# Altium footprint library GCT_USB-Micro.PcbLib: 12 footprints
Each footprint in its own frame and in the unit in brackets; x right, y up, seen from the top. Pads: shape width x height; smd on the part's side, far side on the other; paste and mask are expansions set on the pad; w line width, h text height; cw(c..) or ccw(c..) is an arc to the next point about the centre after c.
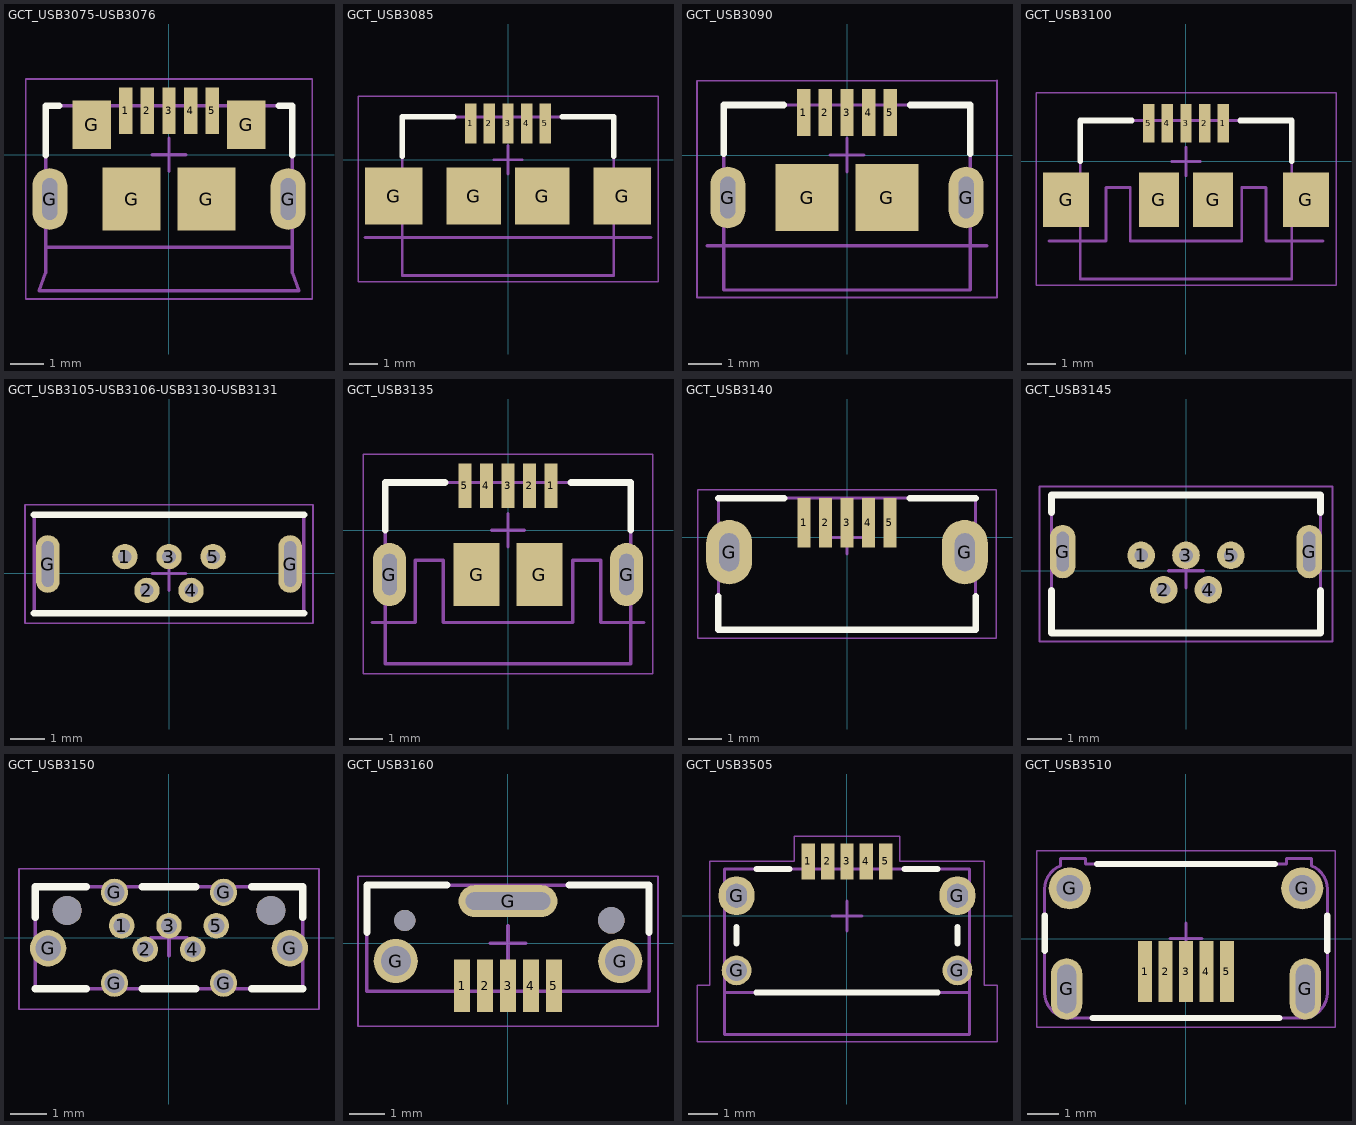
[diagram p0: the footprints below, top view; thin cyan lines are the x and y axes]

## GCT_USB3075-USB3076 [mm]
height 2.7
pads (11):
  rect 0.4x1.4 smd mask+0.07: 1(-1.3,1.325) 2(-0.65,1.325) 3(0,1.325) 4(0.65,1.325) 5(1.3,1.325)
  oval 1.05x1.85 hole 0.45 slot 1.25 at 90 deg mask+0.07: G(-3.575,-1.325) G(3.575,-1.325)
  rect 1.15x1.45 smd mask+0.07: G(-2.32,0.905) G(2.32,0.905)
  rect 1.75x1.9 smd mask+0.07: G(-1.125,-1.325) G(1.125,-1.325)
Top Overlay:
  lines w0.2: -3.7,-0.006 -3.7,1.475 -3.295,1.475 ; 3.295,1.475 3.7,1.475 3.7,-0.006
Top Assembly:
  lines w0.1: -3.7,-2.775 3.7,-2.775 3.7,1.475 -3.7,1.475 -3.7,-2.775
  text ".Designator" at -2.253,-0.226 h1
Top Courtyard:
  lines w0.05: -4.3,-4.325 -4.3,2.275 4.3,2.275 4.3,-4.325 -4.3,-4.325
  lines w0.1: -0.5,0 0.5,0 ; 0,-0.5 0,0.5
Assembly Notes:
  lines w0.1: -3.9,-4.075 3.9,-4.075 3.7,-3.535 3.7,-2.775 -3.7,-2.775 -3.7,-3.535 -3.9,-4.075
  text "PCB Edge" at 0.916,-2.543 h0.51
3D body "step_temp.STEP": height 2.7, standoff -1, extent -3.9,-4.075 3.9,1.475

## GCT_USB3085 [mm]
height 2.7
pads (9):
  rect 0.4x1.4 smd mask+0.07: 1(-1.3,1.275) 2(-0.65,1.275) 3(0,1.275) 4(0.65,1.275) 5(1.3,1.275)
  rect 2x2 smd mask+0.07: G(-4,-1.275) G(4,-1.275)
  rect 1.9x2 smd mask+0.07: G(-1.2,-1.275) G(1.2,-1.275)
Top Overlay:
  lines w0.2: -3.7,0.125 -3.7,1.5 -1.9,1.5 ; 1.9,1.5 3.7,1.5 3.7,0.125
Top Assembly:
  lines w0.1: -5,-2.725 5,-2.725 ; -3.7,-2.725 -3.7,1.5 3.7,1.5 3.7,-2.725
  text ".Designator" at -2.253,-0.226 h1
Top Courtyard:
  lines w0.05: -5.25,-4.275 5.25,-4.275 5.25,2.225 -5.25,2.225 -5.25,-4.275
  lines w0.1: -0.5,0 0.5,0 ; 0,-0.5 0,0.5
Assembly Notes:
  lines w0.1: -5,-2.725 5,-2.725 ; -3.7,-2.725 -3.7,-4.05 3.7,-4.05 3.7,-2.725
  text "PCB Edge" at 1.466,-2.493 h0.51
3D body "USB3085-30-A.stp": height 2.62, standoff -0.14, extent -4.399,-3.95 4.399,1.6

## GCT_USB3090 [mm]
height 2.7
pads (9):
  rect 0.4x1.4 smd mask+0.07: 1(-1.3,1.275) 2(-0.65,1.275) 3(0,1.275) 4(0.65,1.275) 5(1.3,1.275)
  oval 1.05x1.85 hole 0.45 slot 1.25 at 90 deg unplated mask+0.07: G(-3.575,-1.275) G(3.575,-1.275)
  rect 1.9x2 smd mask+0.07: G(-1.2,-1.275) G(1.2,-1.275)
Top Overlay:
  lines w0.2: -3.7,0.044 -3.7,1.5 -1.9,1.5 ; 1.9,1.5 3.7,1.5 3.7,0.044
Top Assembly:
  lines w0.1: -4.2,-2.725 4.2,-2.725 ; -3.7,-2.725 -3.7,1.5 3.7,1.5 3.7,-2.725
  text ".Designator" at -2.253,-0.226 h1
Top Courtyard:
  lines w0.05: -4.5,-4.275 -4.5,2.225 4.5,2.235 4.5,-4.275 -4.5,-4.275
  lines w0.1: -0.5,0 0.5,0 ; 0,-0.5 0,0.5
Assembly Notes:
  lines w0.1: -4.2,-2.725 4.2,-2.725 ; -3.7,-2.725 -3.7,-4.05 3.7,-4.05 3.7,-2.725
  text "PCB Edge" at 1.466,-2.593 h0.51
3D body "step_temp.STEP": height 2.71, standoff -1, extent -3.9,-4.025 3.9,1.475

## GCT_USB3100 [mm]
height 2.77
pads (9):
  rect 0.4x1.35 smd mask+0.07: 1(1.3,1.338) 2(0.65,1.338) 3(0,1.338) 4(-0.65,1.338) 5(-1.3,1.338)
  rect 1.6x1.9 smd mask+0.07: G(-4.2,-1.338) G(4.2,-1.338)
  rect 1.4x1.9 smd mask+0.07: G(-0.95,-1.338) G(0.95,-1.338)
Top Overlay:
  lines w0.2: -3.7,0.012 -3.7,1.438 -1.9,1.438 ; 1.9,1.438 3.7,1.438 3.7,0.012
Top Assembly:
  lines w0.1: -4.8,-2.788 -2.8,-2.788 -2.8,-0.908 -1.95,-0.908 -1.95,-2.788 1.95,-2.788 1.95,-0.908 2.8,-0.908 2.8,-2.788 4.8,-2.788 ; -3.7,-2.788 -3.7,1.438 3.7,1.438 3.7,-2.788
  text ".Designator" at -2.253,-0.226 h1
Top Courtyard:
  lines w0.05: -5.25,-4.337 5.25,-4.337 5.25,2.412 -5.25,2.412 -5.25,-4.337
  lines w0.1: -0.5,0 0.5,0 ; 0,-0.5 0,0.5
Assembly Notes:
  lines w0.1: -4.8,-2.788 -2.8,-2.788 -2.8,-0.908 -1.95,-0.908 -1.95,-2.788 1.95,-2.788 1.95,-0.908 2.8,-0.908 2.8,-2.788 4.8,-2.788 ; -3.7,-2.788 -3.7,-4.113 3.7,-4.113 3.7,-2.788
  text "PCB Edge" at -1.034,-2.555 h0.51
3D body "usb3100-30-a.stp": height 2.63, standoff -0.18, extent -4.613,-4 4.613,1.5

## GCT_USB3105-USB3106-USB3130-USB3131 [mm]
height 5
pads (7):
  round 0.75 hole 0.4 mask+0.07: 1(-1.3,0.5) 2(-0.65,-0.5) 3(0,0.5) 4(0.65,-0.5) 5(1.3,0.5)
  oval 0.7x1.7 hole 0.35 slot 1.35 at 90 deg unplated mask+0.07: G(-3.575,0.28) G(3.575,0.28)
Top Overlay:
  lines w0.2: -3.98,-1.17 3.98,-1.17 ; -3.98,1.73 3.98,1.73
Top Assembly:
  lines w0.1: -3.98,-1.17 -3.98,1.73 3.98,1.73 3.98,-1.17 -3.98,-1.17
  text ".Designator" at -2.253,-0.226 h1
Top Courtyard:
  lines w0.05: -4.25,-1.47 4.25,-1.47 4.25,2.03 -4.25,2.03 -4.25,-1.47
  lines w0.1: -0.5,0 0.5,0 ; 0,-0.5 0,0.5
3D body "usb3105-30-a.stp": height 5.61, standoff -1.5, extent -3.98,-1.23 3.98,1.705

## GCT_USB3135 [mm]
height 2.77
pads (9):
  rect 0.4x1.35 smd mask+0.07: 1(1.3,1.338) 2(0.65,1.338) 3(0,1.338) 4(-0.65,1.338) 5(-1.3,1.338)
  oval 1x1.9 hole 0.45 slot 1.25 at 90 deg unplated mask+0.07: G(-3.575,-1.338) G(3.575,-1.338)
  rect 1.4x1.9 smd mask+0.07: G(-0.95,-1.338) G(0.95,-1.338)
Top Overlay:
  lines w0.2: -3.7,0.006 -3.7,1.438 -1.9,1.438 ; 1.9,1.438 3.7,1.438 3.7,0.006
Top Assembly:
  lines w0.1: -4.1,-2.788 -2.8,-2.788 -2.8,-0.908 -1.95,-0.908 -1.95,-2.788 1.95,-2.788 1.95,-0.908 2.8,-0.908 2.8,-2.788 4.1,-2.788 ; -3.7,-2.788 -3.7,1.438 3.7,1.438 3.7,-2.788
  text ".Designator" at -2.253,-0.226 h1
Top Courtyard:
  lines w0.05: -4.369,-4.335 -4.369,2.295 4.369,2.295 4.369,-4.335 -4.369,-4.335
  lines w0.1: -0.5,0 0.5,0 ; 0,-0.5 0,0.5
Assembly Notes:
  lines w0.1: -4.1,-2.788 -2.8,-2.788 -2.8,-0.908 -1.95,-0.908 -1.95,-2.788 1.95,-2.788 1.95,-0.908 2.8,-0.908 2.8,-2.788 4.1,-2.788 ; -3.7,-2.788 -3.7,-4.03 3.7,-4.03 3.7,-2.788
  text "PCB Edge" at -1.034,-2.655 h0.51
3D body "usb3135-30-a.stp": height 2.64, standoff -0.94, extent -3.901,-4 3.901,1.5

## GCT_USB3140 [mm]
height 6.5
pads (7):
  rect 0.4x1.5 smd mask+0.07: 1(-1.3,0.445) 2(-0.65,0.445) 3(0,0.445) 4(0.65,0.445) 5(1.3,0.445)
  oval 1.4x1.95 hole 0.6 slot 1.15 at 90 deg mask+0.07: G(-3.575,-0.445) G(3.575,-0.445)
Top Overlay:
  lines w0.2: -3.9,-1.785 -3.9,-2.805 3.9,-2.805 3.9,-1.785 ; -3.9,1.195 -1.9,1.195 ; 1.9,1.195 3.9,1.195
Top Assembly:
  lines w0.1: -3.9,-2.805 -3.9,1.195 3.9,1.195 3.9,-2.805 -3.9,-2.805
  text ".Designator" at -2.253,-0.226 h1
Top Courtyard:
  lines w0.05: -4.525,-3.055 -4.525,1.445 4.525,1.445 4.525,-3.055 -4.525,-3.055
  lines w0.1: -0.5,0 0.5,0 ; 0,-0.5 0,0.5
3D body "USB3140-30-0230-1-C--3DModel-STEP-56544.STEP": height 6.55, standoff -2.25, extent -3.9,-2.8 3.9,1.2

## GCT_USB3145 [mm]
height 6.5
pads (7):
  round 0.8 hole 0.4 mask+0.07: 1(-1.3,0.445) 2(-0.65,-0.555) 3(0,0.445) 4(0.65,-0.555) 5(1.3,0.445)
  oval 0.75x1.55 hole 0.35 slot 1.15 at 90 deg unplated mask+0.07: G(-3.575,0.555) G(3.575,0.555)
Top Overlay:
  lines w0.2: -3.9,-0.579 -3.9,-1.805 3.9,-1.805 3.9,-0.579 ; -3.9,1.689 -3.9,2.195 3.9,2.195 3.9,1.689
Top Assembly:
  lines w0.1: -3.9,-1.805 3.9,-1.805 3.9,2.195 -3.9,2.195 -3.9,-1.805
  text ".Designator" at -2.253,-0.226 h1
Top Courtyard:
  lines w0.05: -4.25,-2.055 -4.25,2.445 4.25,2.445 4.25,-2.055 -4.25,-2.055
  lines w0.1: -0.5,0 0.5,0 ; 0,-0.5 0,0.5
3D body "USB3145-30-1-A--3DModel-STEP-56544.STEP": height 6.5, standoff -2.3, extent -3.9,-1.8 3.9,2.2

## GCT_USB3150 [mm]
height 7.23
pads (13):
  round 0.7 hole 0.45 mask+0.07: 1(-1.3,0.33) 2(-0.65,-0.32) 3(0,0.33) 4(0.65,-0.32) 5(1.3,0.33)
  round 1 hole 0.7 mask+0.07: G(-3.325,-0.29) G(3.325,-0.29)
  round 0.75 hole 0.55 mask+0.07: G(-1.5,-1.25) G(-1.5,1.25) G(1.5,-1.25) G(1.5,1.25)
  round 0.8 hole 0.8 unplated mask+0.07: ""(-2.8,0.75) ""(2.8,0.75)
Top Overlay:
  lines w0.2: -3.675,-1.4 -2.266,-1.4 ; -3.675,0.565 -3.675,1.4 -2.266,1.4 ; -0.734,-1.4 0.734,-1.4 ; -0.734,1.4 0.734,1.4 ; 2.266,-1.4 3.675,-1.4 ; 2.266,1.4 3.675,1.4 3.675,0.565
Top Assembly:
  lines w0.1: -3.675,-1.4 -3.675,1.4 3.675,1.4 3.675,-1.4 -3.675,-1.4
  text ".Designator" at -2.253,-0.226 h1
Top Courtyard:
  lines w0.05: -4.125,-1.965 4.125,-1.965 4.125,1.895 -4.125,1.895 -4.125,-1.965
  lines w0.1: -0.5,0 0.5,0 ; 0,-0.5 0,0.5
3D body "USB3150-30-130-A--3DModel-STEP-56544.STEP": height 7.23, standoff -1.3, extent -3.675,-1.4 3.675,1.4

## GCT_USB3160 [mm]
height 6.1
pads (10):
  rect 0.45x1.5 smd mask+0.07: 1(-1.3,-1.2) 2(-0.65,-1.2) 3(0,-1.2) 4(0.65,-1.2) 5(1.3,-1.2)
  round 1.25 hole 0.85 mask+0.07: G(-3.18,-0.5) G(3.18,-0.5)
  oval 2.8x0.9 hole 0.5 slot 2.4 at 0 deg unplated mask+0.07: G(0,1.2)
  round 0.6 hole 0.6 unplated mask+0.07: ""(-2.925,0.65)
  round 0.75 hole 0.75 unplated mask+0.07: ""(2.925,0.65)
Top Overlay:
  lines w0.2: -4,0.309 -4,1.65 -1.726,1.65 ; 1.726,1.65 4,1.65 4,0.309
Top Assembly:
  lines w0.1: -4,-1.35 4,-1.35 4,1.65 -4,1.65 -4,-1.35
  text ".Designator" at -2.253,-0.226 h1
Top Courtyard:
  lines w0.05: -4.25,-2.35 -4.25,1.9 4.25,1.9 4.25,-2.35 -4.25,-2.35
  lines w0.1: -0.5,0 0.5,0 ; 0,-0.5 0,0.5
3D body "step_temp.STEP": height 5.3, standoff -1.2, extent -3.75,-1.39 3.75,1.583

## GCT_USB3505 [mm]
height 4.07
pads (9):
  rect 0.45x1.2 smd mask+0.07: 1(-1.3,1.825) 2(-0.65,1.825) 3(0,1.825) 4(0.65,1.825) 5(1.3,1.825)
  round 1 hole 0.7 mask+0.07: G(-3.7,-1.825) G(3.7,-1.825)
  oval 1.2x1.3 hole 0.7 slot 0.8 at 90 deg mask+0.07: G(-3.7,0.675) G(3.7,0.675)
Top Overlay:
  lines w0.2: -3.7,-0.925 -3.7,-0.375 ; -3.04,-2.575 3.04,-2.575 ; -3.032,1.575 -1.925,1.575 ; 1.925,1.575 3.032,1.575 ; 3.7,-0.925 3.7,-0.375
Top Assembly:
  lines w0.1: -4.1,-2.575 -4.1,1.575 4.1,1.575 4.1,-2.575 -4.1,-2.575
  text ".Designator" at -2.253,-0.226 h1
Top Courtyard:
  lines w0.05: -5.025,-4.225 5.025,-4.225 5.025,-2.325 4.6,-2.325 4.6,1.825 1.775,1.825 1.775,2.675 -1.775,2.675 -1.775,1.825 -4.6,1.825 -4.6,-2.325 -5.025,-2.325 -5.025,-4.225
  lines w0.1: -0.5,0 0.5,0 ; 0,-0.5 0,0.5
Assembly Notes:
  lines w0.1: -4.1,-3.975 4.1,-3.975 4.1,-2.575 -4.1,-2.575 -4.1,-3.975
  text "PCB Edge" at 1.066,-2.343 h0.51
3D body "step_temp.STEP": height 3.87, standoff -1.03, extent -4.775,-3.975 4.775,2.075

## GCT_USB3510 [mm]
height 5.2
pads (9):
  rect 0.45x1.95 smd mask+0.07: 1(-1.3,-1.05) 2(-0.65,-1.05) 3(0,-1.05) 4(0.65,-1.05) 5(1.3,-1.05)
  oval 1x1.95 hole 0.6 slot 1.55 at 90 deg mask+0.07: G(-3.8,-1.6) G(3.8,-1.6)
  round 1.34 hole 0.84 mask+0.07: G(-3.7,1.6) G(3.7,1.6)
Top Overlay:
  lines w0.2: -4.5,-0.391 -4.5,0.734 ; -2.973,-2.525 2.973,-2.525 ; -2.823,2.375 2.823,2.375 ; 4.5,-0.391 4.5,0.734
Top Assembly:
  lines w0.1: -4,-2.467 -4,-2.5 -3.898,-2.5 ; -4,2.317 -4,2.55 -3.2,2.55 -3.2,2.375 3.2,2.375 3.2,2.55 4,2.55 4,2.317 ; -4,-2.467 cw(c-3.7,-1.725) -4.5,-1.725 -4.5,1.575 cw(c-3.7,1.575) -4,2.317 ; -3.894,-2.501 ccw(c-3.7,-1.725) -3.7,-2.525 3.7,-2.525 ccw(c3.7,-1.725) 3.894,-2.501 ; 3.898,-2.5 4,-2.5 4,-2.467 ; 4,-2.467 ccw(c3.7,-1.725) 4.5,-1.725 4.5,1.575 ccw(c3.7,1.575) 4,2.317
  text ".Designator" at -2.253,-0.226 h1
Top Courtyard:
  lines w0.05: -4.75,-2.825 4.75,-2.825 4.75,2.8 -4.75,2.8 -4.75,-2.825
  lines w0.1: -0.5,0 0.5,0 ; 0,-0.5 0,0.5
3D body "step_temp.STEP": height 5.25, standoff -0.75, extent -4.5,-2.525 4.5,2.55